# EAGLE library part RJCSEX38X01X (library rj45)
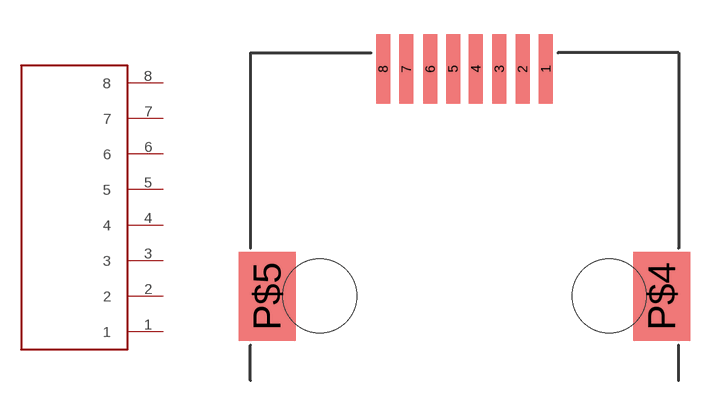
[diagram p0: symbol with the pads of RJCSEX38X01X; footprint RJCSEX38X01X]

Designator prefix -

## RJCSEX38X01XRJCSEX38X01X  [RJCSEX38X01X]
1  1
2  2
3  3
4  4
5  5
6  6
7  7
8  8

## Footprint RJCSEX38X01X (pad centres in mm)
smd 0.61 x 3.05: 1 3.57,4.99; 2 2.55,4.99; 3 1.53,4.99; 4 0.501,4.99; 5 -0.501,4.99; 6 -1.503,4.99; 7 -2.55,4.99; 8 -3.57,4.99
smd 2.5 x 3.9: P$4 8.66,-5; P$5 -8.66,-5
hole 3.25 at -6.35,-4.99
hole 3.25 at 6.35,-4.99